# Altium schematic symbol library CL10A106MO8NQNC.SchLib: 1 symbol
Pins are listed as number, name and electrical type; pins without a type are passive.

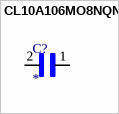
[diagram p0: symbol CL10A106MO8NQNC]

## CL10A106MO8NQNC
designator C?
Cap Ceramic 10uF 16V X5R 20% SMD 0603 85Â°C Paper T/R; MF: {'manufacturer': u'Samsung Electro-Mechanics'}; MP: CL10A106MO8NQNC; Package: None; Price: None; Value: *; Availability: Unavailable
footprint CAPC1608X90N
pins: 1, 2